# EAGLE library part HMC5883L (library IAD-Library)
HMC5883L
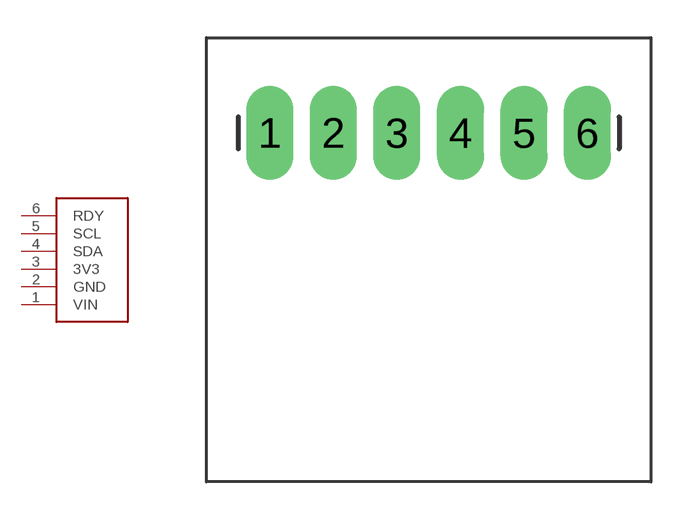
[diagram p7: symbol with the pads of HMC5883L; footprint HMC5883L]

Designator prefix -

## HMC5883L  [HMC5883L]
1  VIN
2  GND
3  3V3
4  SDA
5  SCL
6  RDY

## Footprint HMC5883L (pad centres in mm)
HMC5883L
drill 1.118 pad 1.88 long: 1 -6.35,5.08; 2 -3.81,5.08; 3 -1.27,5.08; 4 1.27,5.08; 5 3.81,5.08; 6 6.35,5.08